# Altium footprint library NVMemory.PcbLib: 1 footprints
Each footprint in its own frame and in the unit in brackets; x right, y up, seen from the top. Pads: shape width x height; smd on the part's side, far side on the other; paste and mask are expansions set on the pad; w line width, h text height; cw(c..) or ccw(c..) is an arc to the next point about the centre after c.
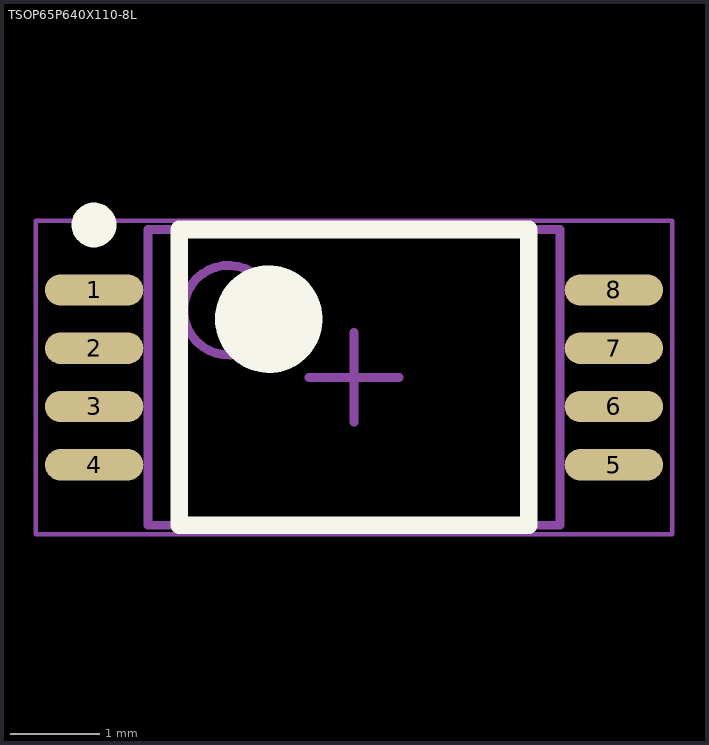
[diagram p0: the footprint, top view; thin cyan lines are the x and y axes]

## TSOP65P640X110-8L [mm] "TSOP, 8-Leads, Body 3.05x4.40mm, Pitch 0.65mm, IPC High Density"
height 1.1
pads (8):
  oval 1.1x0.35 smd: 1(-14.5,4.875) 2(-14.5,4.225) 3(-14.5,3.575) 4(-14.5,2.925) 5(-8.7,2.925) 6(-8.7,3.575) 7(-8.7,4.225) 8(-8.7,4.875)
Top Overlay:
  circle w0.6: c-12.55,4.55 r0.3
  circle w0.25: c-14.5,5.6 r0.125
  lines w0.2: -13.55,2.25 -9.65,2.25 -9.65,5.55 -13.55,5.55 -13.55,2.25
Mechanical 13:
  circle w0.1: c-13,4.65 r0.5
  lines w0.1: -13.9,2.25 -9.3,2.25 -9.3,5.55 -13.9,5.55 -13.9,2.25
Mechanical 15:
  lines w0.05: -15.15,2.15 -8.05,2.15 -8.05,5.65 -15.15,5.65 -15.15,2.15
  lines w0.1: -12.1,3.9 -11.1,3.9 ; -11.6,3.4 -11.6,4.4
3D body: height 1.1, standoff 0, extent -13.9,2.25 -9.3,5.55